# Altium schematic symbol library Schematic-Lib-ABahlmann-CON.SchLib: 147 symbols (part 2 of 2)
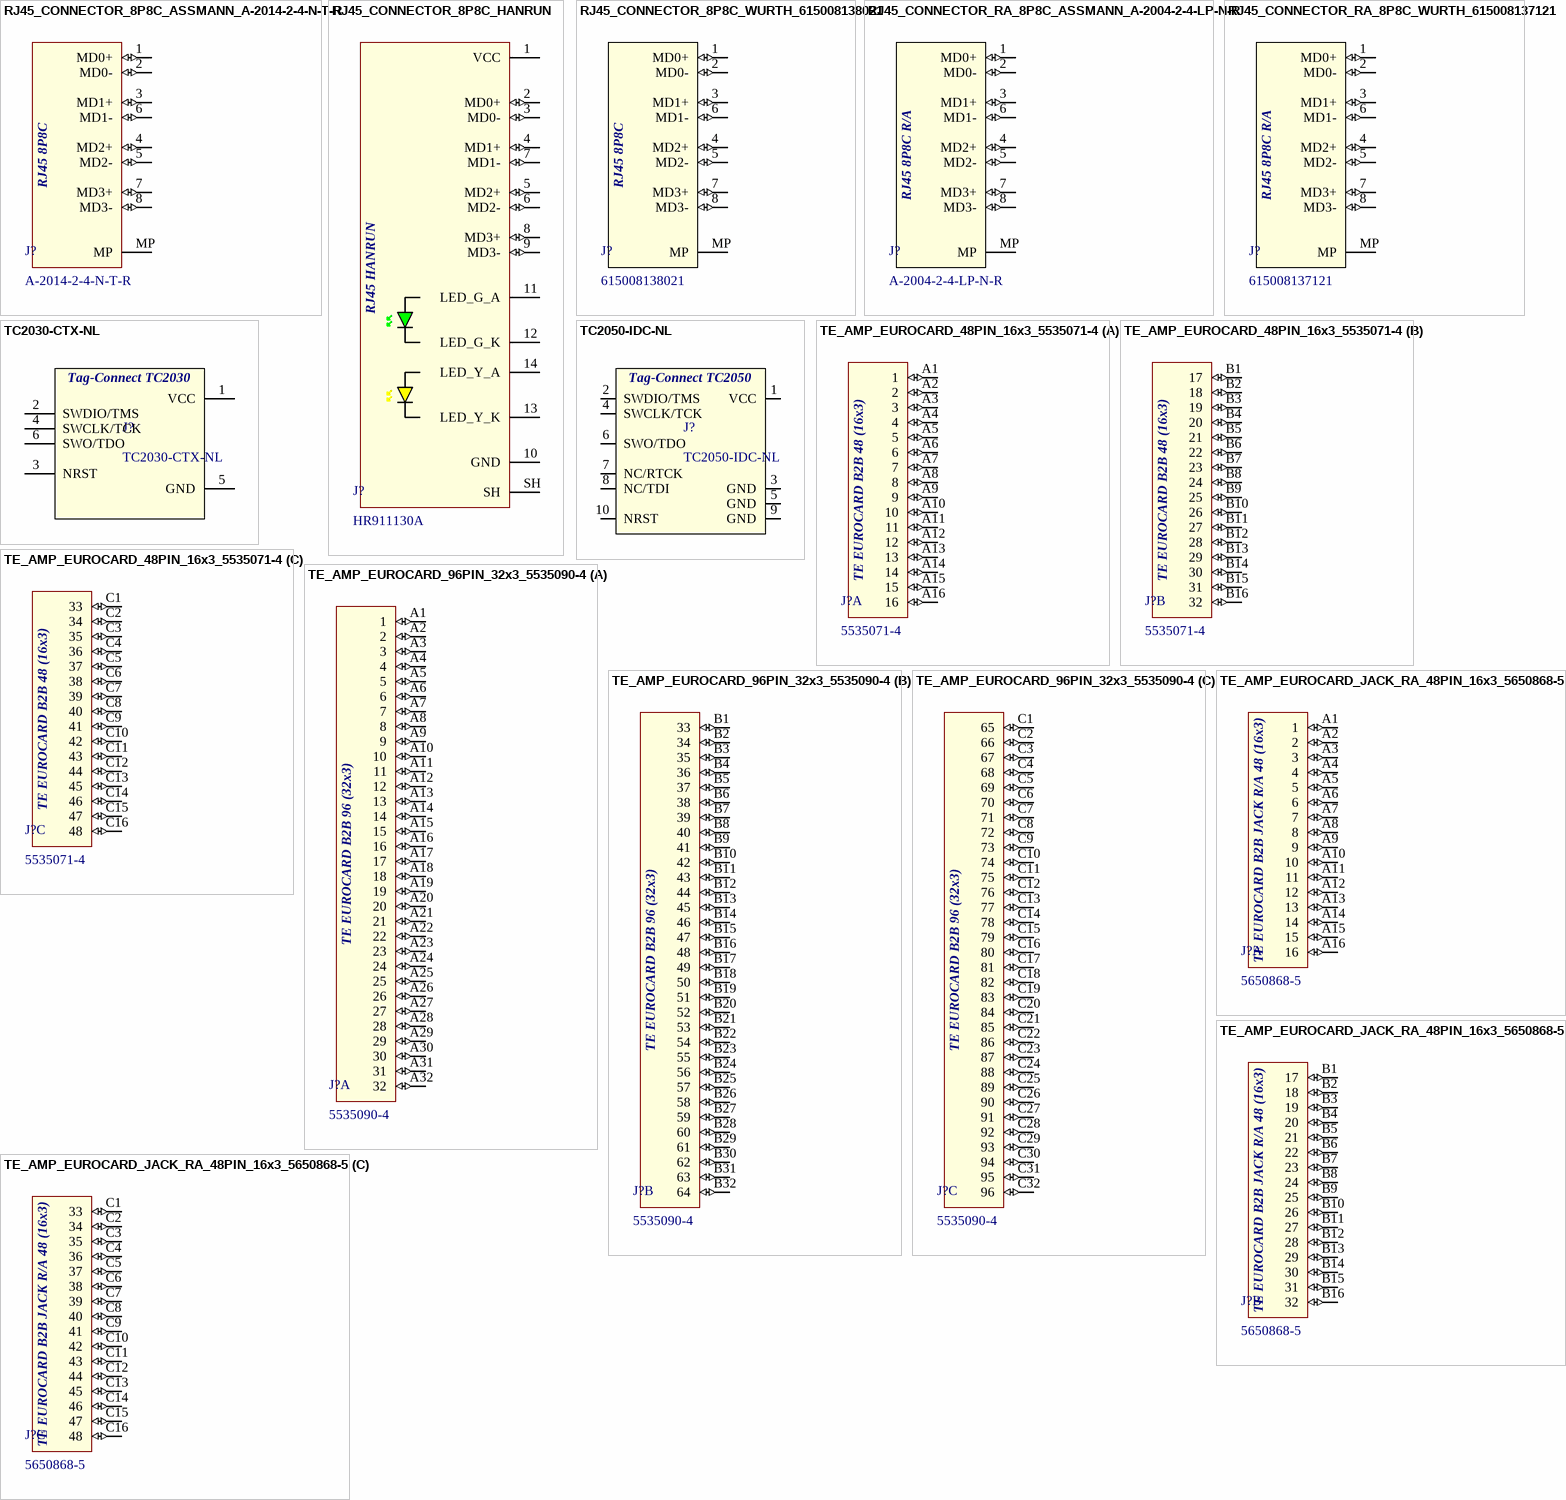
[diagram p7: symbols RJ45_CONNECTOR_8P8C_ASSMANN_A-2014-2-4-N-T-R to TE_AMP_EUROCARD_JACK_RA_48PIN_16x3_5650868-5]

## TC2050-IDC-NL
designator J?  (no BOM)
TC2050-IDC-NL 10-Pin "No-Legs" Cable with Ribbon Connector (NO BOM); ComponentLink1Description: Tag-Connect; ComponentLink1URL: https://www.tag-connect.com/product/tc2050-idc-nl-10-pin-no-legs-cable-with-ribbon-connector; ComponentLink2Description: Datasheet; ComponentLink2URL: https://www.tag-connect.com/wp-content/uploads/bsk-pdf-manager/TC2050-IDC-NL_Datasheet_8.pdf; ComponentLink3Description: Pinout; ComponentLink3URL: https://www.tag-connect.com/wp-content/uploads/bsk-pdf-manager/TC2030-CTX_1.pdf
footprint TC2050-NL-FP
footprint TC2050-FP
pins: 1 VCC, 2 SWDIO/TMS, 3 GND, 4 SWCLK/TCK, 5 GND, 6 SWO/TDO, 7 NC/RTCK, 8 NC/TDI, 9 GND, 10 NRST
text: Tag-Connect TC2050

## TE_AMP_EUROCARD_48PIN_16x3_5535071-4
designator J?, comment 5535071-4
48 Position Din Connector Receptacle, Female Sockets Gold Through Hole; ComponentLink1Description: Digikey; ComponentLink1URL: https://www.digikey.ca/en/products/detail/te-connectivity-amp-connectors/5535071-4/1091296; ComponentLink2Description: Datasheet; ComponentLink2URL: https://www.te.com/commerce/DocumentDelivery/DDEController?Action=srchrtrv&DocNm=5535071&DocType=Customer+Drawing&DocLang=English
footprint TE_AMP_EUROCARD_48PIN_16x3_5535071-4 (48 Position Din Connector Receptacle, Female Sockets Gold Through Hole)
part A pins: A1 1 (io), A2 2 (io), A3 3 (io), A4 4 (io), A5 5 (io), A6 6 (io), A7 7 (io), A8 8 (io), A9 9 (io), A10 10 (io), A11 11 (io), A12 12 (io), A13 13 (io), A14 14 (io), A15 15 (io), A16 16 (io)
part B pins: B1 17 (io), B2 18 (io), B3 19 (io), B4 20 (io), B5 21 (io), B6 22 (io), B7 23 (io), B8 24 (io), B9 25 (io), B10 26 (io), B11 27 (io), B12 28 (io), B13 29 (io), B14 30 (io), B15 31 (io), B16 32 (io)
part C pins: C1 33 (io), C2 34 (io), C3 35 (io), C4 36 (io), C5 37 (io), C6 38 (io), C7 39 (io), C8 40 (io), C9 41 (io), C10 42 (io), C11 43 (io), C12 44 (io), C13 45 (io), C14 46 (io), C15 47 (io), C16 48 (io)
part A text: TE EUROCARD B2B 48 (16x3)
part B text: TE EUROCARD B2B 48 (16x3)
part C text: TE EUROCARD B2B 48 (16x3)

## TE_AMP_EUROCARD_96PIN_32x3_5535090-4
designator J?, comment 5535090-4
96 Position Din Connector Receptacle, Female Sockets Gold Through Hole; ComponentLink1Description: Digikey; ComponentLink1URL: https://www.digikey.ca/en/products/detail/te-connectivity-amp-connectors/5535090-4/1091302?s=N4IgTCBcDaIKxwMxwAwE4UFoAsIC6AvkA; ComponentLink2Description: Datasheet; ComponentLink2URL: https://www.te.com/usa-en/product-5535090-4.datasheet.pdf
footprint TE_AMP_EUROCARD_96PIN_32x3_5535090-4 (96 Position Din Connector Receptacle, Female Sockets Gold Through Hole)
part A pins: A1 1 (io), A2 2 (io), A3 3 (io), A4 4 (io), A5 5 (io), A6 6 (io), A7 7 (io), A8 8 (io), A9 9 (io), A10 10 (io), A11 11 (io), A12 12 (io), A13 13 (io), A14 14 (io), A15 15 (io), A16 16 (io), A17 17 (io), A18 18 (io), A19 19 (io), A20 20 (io), A21 21 (io), A22 22 (io), A23 23 (io), A24 24 (io), A25 25 (io), A26 26 (io), A27 27 (io), A28 28 (io), A29 29 (io), A30 30 (io), A31 31 (io), A32 32 (io)
part B pins: B1 33 (io), B2 34 (io), B3 35 (io), B4 36 (io), B5 37 (io), B6 38 (io), B7 39 (io), B8 40 (io), B9 41 (io), B10 42 (io), B11 43 (io), B12 44 (io), B13 45 (io), B14 46 (io), B15 47 (io), B16 48 (io), B17 49 (io), B18 50 (io), B19 51 (io), B20 52 (io), B21 53 (io), B22 54 (io), B23 55 (io), B24 56 (io), B25 57 (io), B26 58 (io), B27 59 (io), B28 60 (io), B29 61 (io), B30 62 (io), B31 63 (io), B32 64 (io)
part C pins: C1 65 (io), C2 66 (io), C3 67 (io), C4 68 (io), C5 69 (io), C6 70 (io), C7 71 (io), C8 72 (io), C9 73 (io), C10 74 (io), C11 75 (io), C12 76 (io), C13 77 (io), C14 78 (io), C15 79 (io), C16 80 (io), C17 81 (io), C18 82 (io), C19 83 (io), C20 84 (io), C21 85 (io), C22 86 (io), C23 87 (io), C24 88 (io), C25 89 (io), C26 90 (io), C27 91 (io), C28 92 (io), C29 93 (io), C30 94 (io), C31 95 (io), C32 96 (io)
part A text: TE EUROCARD B2B 96 (32x3)
part B text: TE EUROCARD B2B 96 (32x3)
part C text: TE EUROCARD B2B 96 (32x3)

## TE_AMP_EUROCARD_JACK_RA_48PIN_16x3_5650868-5
designator J?, comment 5650868-5
48 Position Din Connector Receptacle, Female Sockets Gold Through Hole, Right Angle; ComponentLink1Description: Digikey; ComponentLink1URL: https://www.digikey.com/en/products/detail/te-connectivity-amp-connectors/5650868-5/1091317; ComponentLink2Description: Datasheet; ComponentLink2URL: https://www.te.com/commerce/DocumentDelivery/DDEController?Action=srchrtrv&DocNm=5650868&DocType=Customer+Drawing&DocLang=English
footprint TE_AMP_EUROCARD_JACK_RA_48PIN_16x3_5650868-5 (48 Position Din Connector Receptacle, Female Sockets Gold Through Hole, Right Angle)
part A pins: A1 1 (io), A2 2 (io), A3 3 (io), A4 4 (io), A5 5 (io), A6 6 (io), A7 7 (io), A8 8 (io), A9 9 (io), A10 10 (io), A11 11 (io), A12 12 (io), A13 13 (io), A14 14 (io), A15 15 (io), A16 16 (io)
part B pins: B1 17 (io), B2 18 (io), B3 19 (io), B4 20 (io), B5 21 (io), B6 22 (io), B7 23 (io), B8 24 (io), B9 25 (io), B10 26 (io), B11 27 (io), B12 28 (io), B13 29 (io), B14 30 (io), B15 31 (io), B16 32 (io)
part C pins: C1 33 (io), C2 34 (io), C3 35 (io), C4 36 (io), C5 37 (io), C6 38 (io), C7 39 (io), C8 40 (io), C9 41 (io), C10 42 (io), C11 43 (io), C12 44 (io), C13 45 (io), C14 46 (io), C15 47 (io), C16 48 (io)
part A text: TE EUROCARD B2B JACK R/A 48 (16x3)
part B text: TE EUROCARD B2B JACK R/A 48 (16x3)
part C text: TE EUROCARD B2B JACK R/A 48 (16x3)

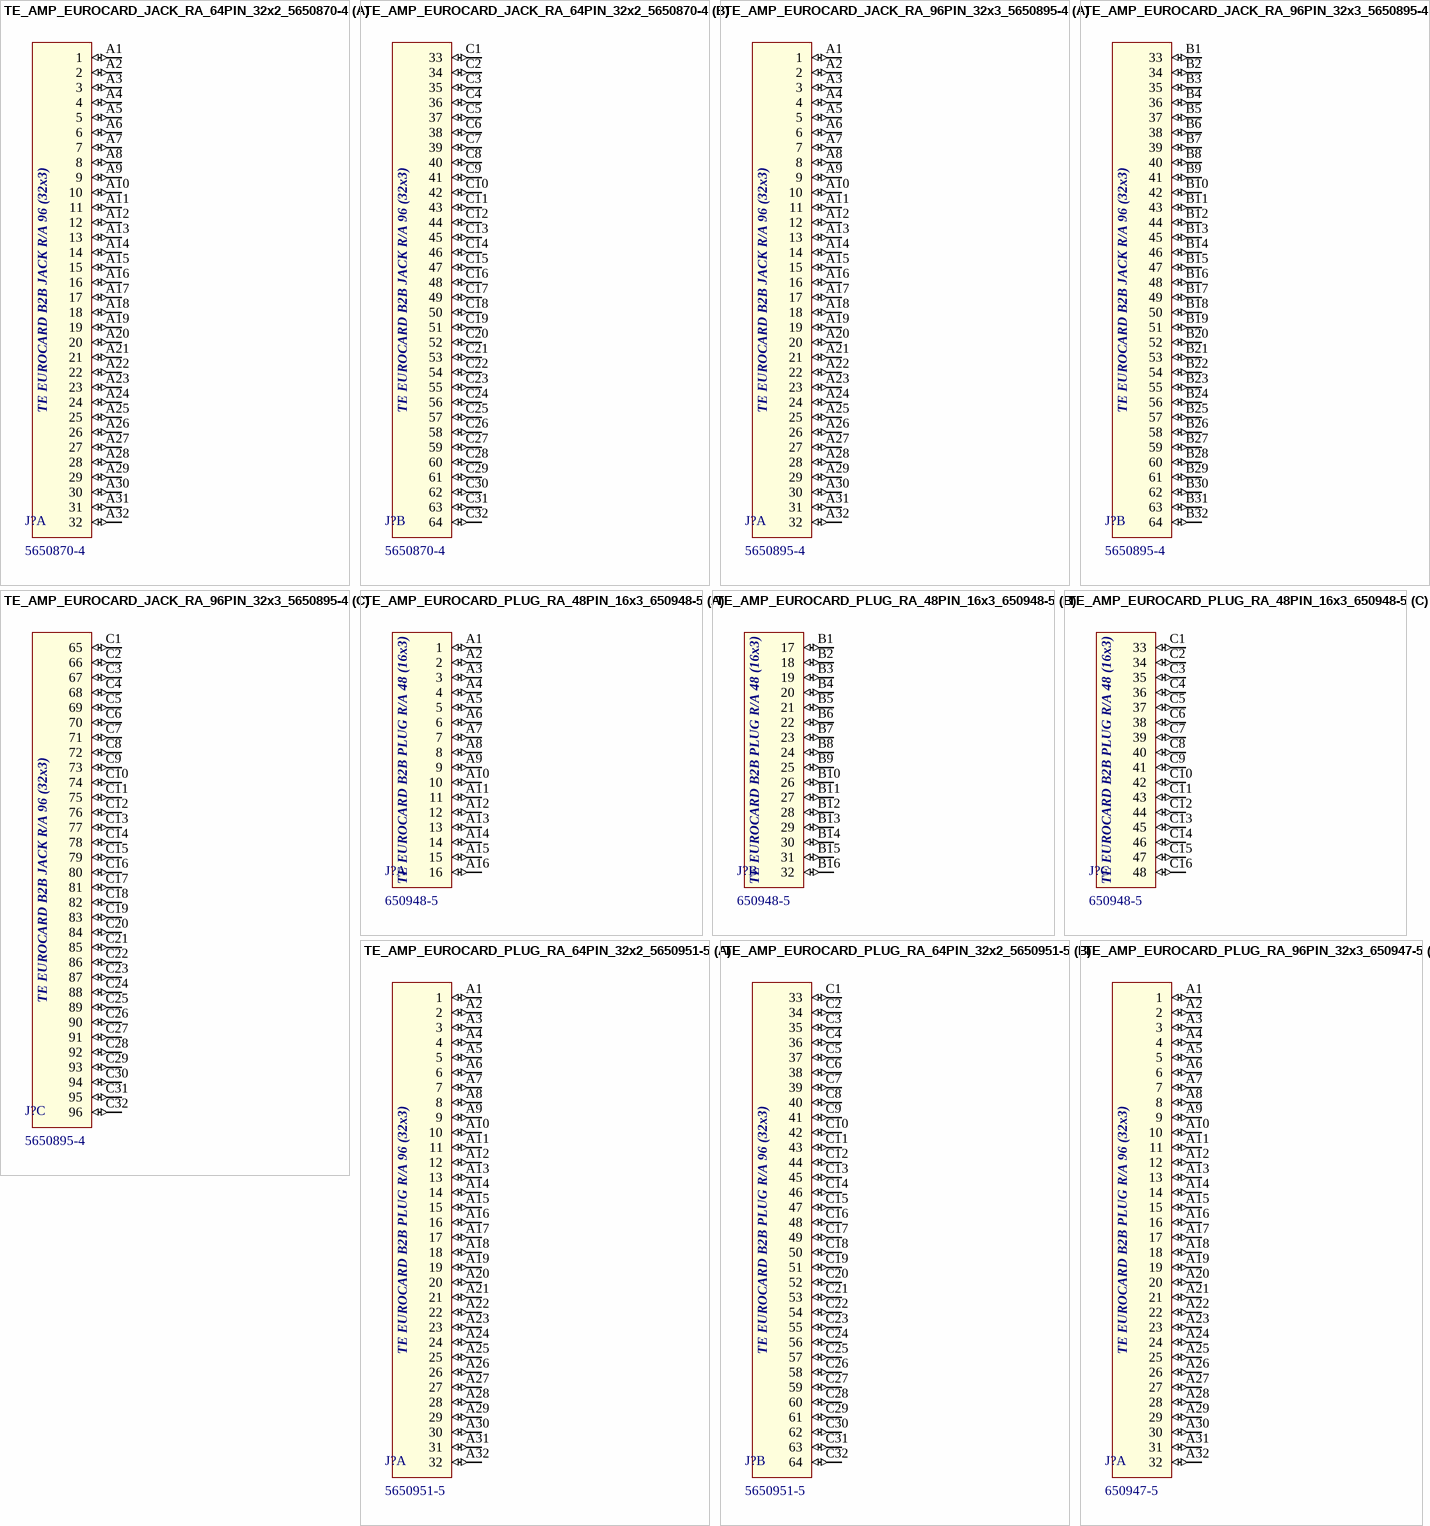
[diagram p4: symbols TE_AMP_EUROCARD_JACK_RA_64PIN_32x2_5650870-4 to TE_AMP_EUROCARD_PLUG_RA_96PIN_32x3_650947-5]

## TE_AMP_EUROCARD_JACK_RA_64PIN_32x2_5650870-4
designator J?, comment 5650870-4
96 Position Din Connector Receptacle, Female Sockets Gold Through Hole, Right Angle; ComponentLink1Description: Digikey; ComponentLink1URL: https://www.digikey.ca/en/products/detail/te-connectivity-amp-connectors/5650870-4/1091318; ComponentLink2Description: Datasheet; ComponentLink2URL: https://www.te.com/commerce/DocumentDelivery/DDEController?Action=srchrtrv&DocNm=5650870&DocType=Customer+Drawing&DocLang=English
footprint TE_AMP_EUROCARD_JACK_RA_96PIN_32x2_5650870-4_CUSTOM (96 Position Din Connector Receptacle, Female Sockets Gold Through Hole, Right Angle)
part A pins: A1 1 (io), A2 2 (io), A3 3 (io), A4 4 (io), A5 5 (io), A6 6 (io), A7 7 (io), A8 8 (io), A9 9 (io), A10 10 (io), A11 11 (io), A12 12 (io), A13 13 (io), A14 14 (io), A15 15 (io), A16 16 (io), A17 17 (io), A18 18 (io), A19 19 (io), A20 20 (io), A21 21 (io), A22 22 (io), A23 23 (io), A24 24 (io), A25 25 (io), A26 26 (io), A27 27 (io), A28 28 (io), A29 29 (io), A30 30 (io), A31 31 (io), A32 32 (io)
part B pins: C1 33 (io), C2 34 (io), C3 35 (io), C4 36 (io), C5 37 (io), C6 38 (io), C7 39 (io), C8 40 (io), C9 41 (io), C10 42 (io), C11 43 (io), C12 44 (io), C13 45 (io), C14 46 (io), C15 47 (io), C16 48 (io), C17 49 (io), C18 50 (io), C19 51 (io), C20 52 (io), C21 53 (io), C22 54 (io), C23 55 (io), C24 56 (io), C25 57 (io), C26 58 (io), C27 59 (io), C28 60 (io), C29 61 (io), C30 62 (io), C31 63 (io), C32 64 (io)
part A text: TE EUROCARD B2B JACK R/A 96 (32x3)
part B text: TE EUROCARD B2B JACK R/A 96 (32x3)

## TE_AMP_EUROCARD_JACK_RA_96PIN_32x3_5650895-4
designator J?, comment 5650895-4
96 Position Din Connector Receptacle, Female Sockets Gold Through Hole, Right Angle; ComponentLink1Description: Digikey; ComponentLink1URL: https://www.digikey.ca/en/products/detail/te-connectivity-amp-connectors/5650895-4/2135731; ComponentLink2Description: Datasheet; ComponentLink2URL: https://www.te.com/usa-en/product-5650895-4.datasheet.pdf
footprint TE_AMP_EUROCARD_JACK_RA_96PIN_32x3_5650895-4 (96 Position Din Connector Receptacle, Female Sockets Gold Through Hole, Right Angle)
part A pins: A1 1 (io), A2 2 (io), A3 3 (io), A4 4 (io), A5 5 (io), A6 6 (io), A7 7 (io), A8 8 (io), A9 9 (io), A10 10 (io), A11 11 (io), A12 12 (io), A13 13 (io), A14 14 (io), A15 15 (io), A16 16 (io), A17 17 (io), A18 18 (io), A19 19 (io), A20 20 (io), A21 21 (io), A22 22 (io), A23 23 (io), A24 24 (io), A25 25 (io), A26 26 (io), A27 27 (io), A28 28 (io), A29 29 (io), A30 30 (io), A31 31 (io), A32 32 (io)
part B pins: B1 33 (io), B2 34 (io), B3 35 (io), B4 36 (io), B5 37 (io), B6 38 (io), B7 39 (io), B8 40 (io), B9 41 (io), B10 42 (io), B11 43 (io), B12 44 (io), B13 45 (io), B14 46 (io), B15 47 (io), B16 48 (io), B17 49 (io), B18 50 (io), B19 51 (io), B20 52 (io), B21 53 (io), B22 54 (io), B23 55 (io), B24 56 (io), B25 57 (io), B26 58 (io), B27 59 (io), B28 60 (io), B29 61 (io), B30 62 (io), B31 63 (io), B32 64 (io)
part C pins: C1 65 (io), C2 66 (io), C3 67 (io), C4 68 (io), C5 69 (io), C6 70 (io), C7 71 (io), C8 72 (io), C9 73 (io), C10 74 (io), C11 75 (io), C12 76 (io), C13 77 (io), C14 78 (io), C15 79 (io), C16 80 (io), C17 81 (io), C18 82 (io), C19 83 (io), C20 84 (io), C21 85 (io), C22 86 (io), C23 87 (io), C24 88 (io), C25 89 (io), C26 90 (io), C27 91 (io), C28 92 (io), C29 93 (io), C30 94 (io), C31 95 (io), C32 96 (io)
part A text: TE EUROCARD B2B JACK R/A 96 (32x3)
part B text: TE EUROCARD B2B JACK R/A 96 (32x3)
part C text: TE EUROCARD B2B JACK R/A 96 (32x3)

## TE_AMP_EUROCARD_PLUG_RA_48PIN_16x3_650948-5
designator J?, comment 650948-5
48 Position Din Connector Plug, Male Pins Gold Through Hole, Right Angle; ComponentLink1Description: Digikey; ComponentLink1URL: https://www.digikey.ca/en/products/detail/te-connectivity-amp-connectors/650948-5/146312; ComponentLink2Description: Datasheet; ComponentLink2URL: https://www.te.com/commerce/DocumentDelivery/DDEController?Action=srchrtrv&DocNm=650948&DocType=Customer+Drawing&DocLang=English
footprint TE_AMP_EUROCARD_PLUG_RA_48PIN_16x3_650948-5 (48 Position Din Connector Plug, Male Pins Gold Through Hole, Right Angle)
part A pins: A1 1 (io), A2 2 (io), A3 3 (io), A4 4 (io), A5 5 (io), A6 6 (io), A7 7 (io), A8 8 (io), A9 9 (io), A10 10 (io), A11 11 (io), A12 12 (io), A13 13 (io), A14 14 (io), A15 15 (io), A16 16 (io)
part B pins: B1 17 (io), B2 18 (io), B3 19 (io), B4 20 (io), B5 21 (io), B6 22 (io), B7 23 (io), B8 24 (io), B9 25 (io), B10 26 (io), B11 27 (io), B12 28 (io), B13 29 (io), B14 30 (io), B15 31 (io), B16 32 (io)
part C pins: C1 33 (io), C2 34 (io), C3 35 (io), C4 36 (io), C5 37 (io), C6 38 (io), C7 39 (io), C8 40 (io), C9 41 (io), C10 42 (io), C11 43 (io), C12 44 (io), C13 45 (io), C14 46 (io), C15 47 (io), C16 48 (io)
part A text: TE EUROCARD B2B PLUG R/A 48 (16x3)
part B text: TE EUROCARD B2B PLUG R/A 48 (16x3)
part C text: TE EUROCARD B2B PLUG R/A 48 (16x3)

## TE_AMP_EUROCARD_PLUG_RA_64PIN_32x2_5650951-5
designator J?, comment 5650951-5
96 Position Din Connector Plug, Male Pins Gold Through Hole, Right Angle; ComponentLink1Description: Digikey; ComponentLink1URL: https://www.digikey.ca/en/products/detail/te-connectivity-amp-connectors/5650951-5/1091271; ComponentLink2Description: Datasheet; ComponentLink2URL: https://www.te.com/commerce/DocumentDelivery/DDEController?Action=srchrtrv&DocNm=5650951&DocType=Customer+Drawing&DocLang=English
footprint TE_AMP_EUROCARD_PLUG_RA_96PIN_32x2_5650951-5_CUSTOM (96 Position Din Connector Plug, Male Pins Gold Through Hole, Right Angle)
part A pins: A1 1 (io), A2 2 (io), A3 3 (io), A4 4 (io), A5 5 (io), A6 6 (io), A7 7 (io), A8 8 (io), A9 9 (io), A10 10 (io), A11 11 (io), A12 12 (io), A13 13 (io), A14 14 (io), A15 15 (io), A16 16 (io), A17 17 (io), A18 18 (io), A19 19 (io), A20 20 (io), A21 21 (io), A22 22 (io), A23 23 (io), A24 24 (io), A25 25 (io), A26 26 (io), A27 27 (io), A28 28 (io), A29 29 (io), A30 30 (io), A31 31 (io), A32 32 (io)
part B pins: C1 33 (io), C2 34 (io), C3 35 (io), C4 36 (io), C5 37 (io), C6 38 (io), C7 39 (io), C8 40 (io), C9 41 (io), C10 42 (io), C11 43 (io), C12 44 (io), C13 45 (io), C14 46 (io), C15 47 (io), C16 48 (io), C17 49 (io), C18 50 (io), C19 51 (io), C20 52 (io), C21 53 (io), C22 54 (io), C23 55 (io), C24 56 (io), C25 57 (io), C26 58 (io), C27 59 (io), C28 60 (io), C29 61 (io), C30 62 (io), C31 63 (io), C32 64 (io)
part A text: TE EUROCARD B2B PLUG R/A 96 (32x3)
part B text: TE EUROCARD B2B PLUG R/A 96 (32x3)

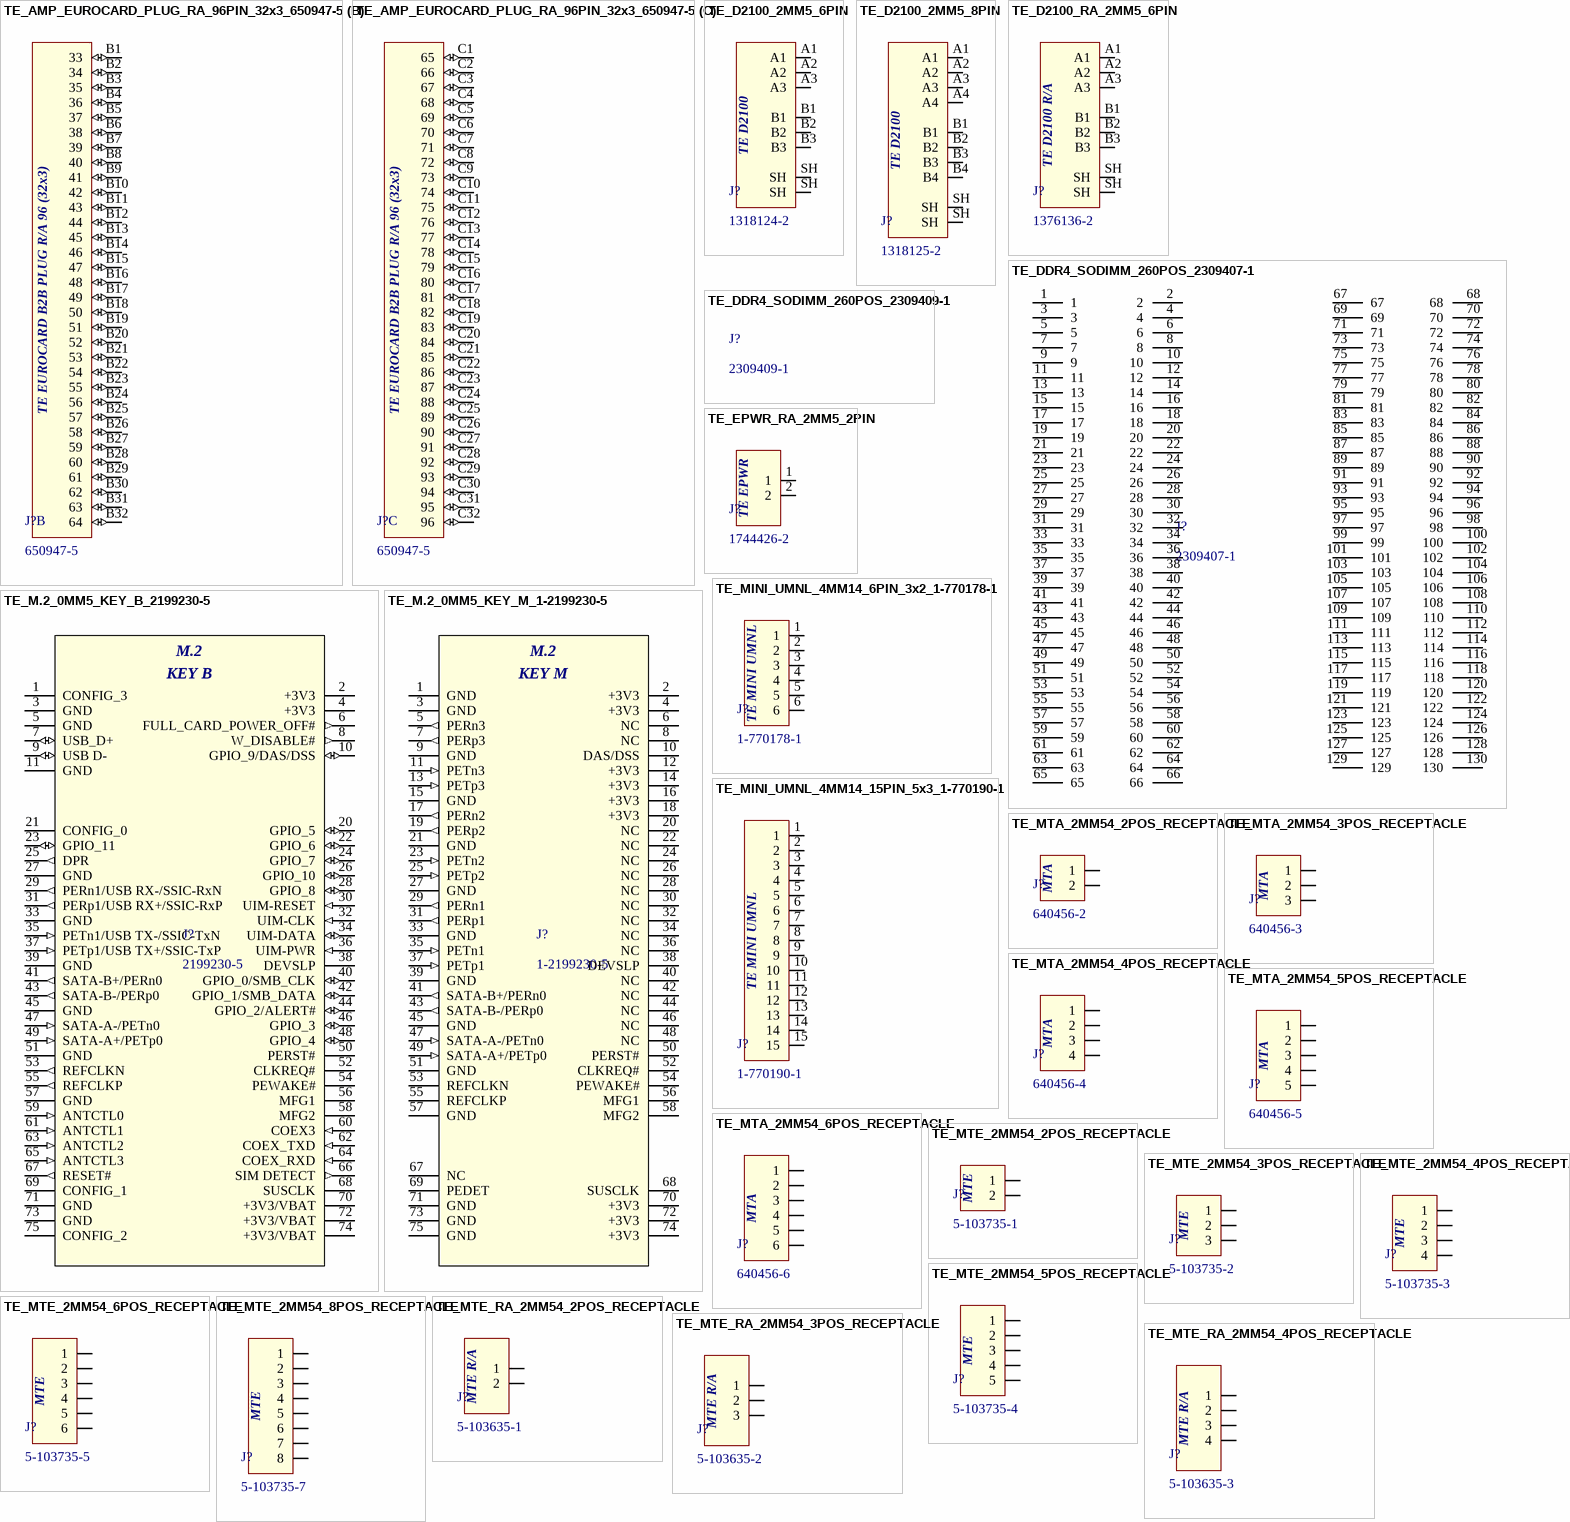
[diagram p5: symbols TE_AMP_EUROCARD_PLUG_RA_96PIN_32x3_650947-5 to TE_MTE_RA_2MM54_4POS_RECEPTACLE]

## TE_AMP_EUROCARD_PLUG_RA_96PIN_32x3_650947-5
designator J?, comment 650947-5
96 Position Din Connector Plug, Male Pins Gold Through Hole, Right Angle; ComponentLink1Description: Digikey; ComponentLink1URL: https://www.digikey.ca/en/products/detail/te-connectivity-amp-connectors/650947-5/146306; ComponentLink2Description: Datasheet; ComponentLink2URL: https://www.te.com/commerce/DocumentDelivery/DDEController?Action=srchrtrv&DocNm=650947&DocType=Customer+Drawing&DocLang=English
footprint TE_AMP_EUROCARD_PLUG_RA_96PIN_32x3_650947-5 (96 Position Din Connector Plug, Male Pins Gold Through Hole, Right Angle)
part A pins: A1 1 (io), A2 2 (io), A3 3 (io), A4 4 (io), A5 5 (io), A6 6 (io), A7 7 (io), A8 8 (io), A9 9 (io), A10 10 (io), A11 11 (io), A12 12 (io), A13 13 (io), A14 14 (io), A15 15 (io), A16 16 (io), A17 17 (io), A18 18 (io), A19 19 (io), A20 20 (io), A21 21 (io), A22 22 (io), A23 23 (io), A24 24 (io), A25 25 (io), A26 26 (io), A27 27 (io), A28 28 (io), A29 29 (io), A30 30 (io), A31 31 (io), A32 32 (io)
part B pins: B1 33 (io), B2 34 (io), B3 35 (io), B4 36 (io), B5 37 (io), B6 38 (io), B7 39 (io), B8 40 (io), B9 41 (io), B10 42 (io), B11 43 (io), B12 44 (io), B13 45 (io), B14 46 (io), B15 47 (io), B16 48 (io), B17 49 (io), B18 50 (io), B19 51 (io), B20 52 (io), B21 53 (io), B22 54 (io), B23 55 (io), B24 56 (io), B25 57 (io), B26 58 (io), B27 59 (io), B28 60 (io), B29 61 (io), B30 62 (io), B31 63 (io), B32 64 (io)
part C pins: C1 65 (io), C2 66 (io), C3 67 (io), C4 68 (io), C5 69 (io), C6 70 (io), C7 71 (io), C8 72 (io), C9 73 (io), C10 74 (io), C11 75 (io), C12 76 (io), C13 77 (io), C14 78 (io), C15 79 (io), C16 80 (io), C17 81 (io), C18 82 (io), C19 83 (io), C20 84 (io), C21 85 (io), C22 86 (io), C23 87 (io), C24 88 (io), C25 89 (io), C26 90 (io), C27 91 (io), C28 92 (io), C29 93 (io), C30 94 (io), C31 95 (io), C32 96 (io)
part A text: TE EUROCARD B2B PLUG R/A 96 (32x3)
part B text: TE EUROCARD B2B PLUG R/A 96 (32x3)
part C text: TE EUROCARD B2B PLUG R/A 96 (32x3)

## TE_D2100_2MM5_6PIN
designator J?, comment 1318124-2
Connector Header Through Hole 6 position 0.098" (2.50mm); ComponentLink1Description: Digikey; ComponentLink1URL: https://www.digikey.ca/en/products/detail/te-connectivity-amp-connectors/1318124-2/1864052; ComponentLink2Description: Datasheet; ComponentLink2URL: https://www.te.com/commerce/DocumentDelivery/DDEController?Action=srchrtrv&DocNm=1318124&DocType=Customer%20Drawing&DocLang=English&DocFormat=pdf&PartCntxt=1318124-2
pins: A1, A2, A3, B1, B2, B3, SH, SH
text: TE D2100

## TE_D2100_2MM5_8PIN
designator J?, comment 1318125-2
Connector Header Through Hole 8 position 0.098" (2.50mm); ComponentLink1Description: Digikey; ComponentLink1URL: https://www.digikey.ca/en/products/detail/te-connectivity-amp-connectors/1318125-2/664529; ComponentLink2Description: Datasheet; ComponentLink2URL: https://www.te.com/commerce/DocumentDelivery/DDEController?Action=srchrtrv&DocNm=1318125&DocType=Customer%20Drawing&DocLang=Japanese&DocFormat=pdf&PartCntxt=1318125-2
pins: A1, A2, A3, A4, B1, B2, B3, B4, SH, SH
text: TE D2100

## TE_D2100_RA_2MM5_6PIN
designator J?, comment 1376136-2
Connector Header Through Hole, Right Angle 6 position 0.098" (2.50mm); ComponentLink1Description: Digikey; ComponentLink1URL: https://www.digikey.ca/en/products/detail/te-connectivity-amp-connectors/1376136-2/664548; ComponentLink2Description: Datasheet; ComponentLink2URL: https://www.te.com/commerce/DocumentDelivery/DDEController?Action=srchrtrv&DocNm=1376136&DocType=Customer%20Drawing&DocLang=English&DocFormat=pdf&PartCntxt=1376136-2
footprint TE_D2100_RA_2MM5_6PIN_1376136-2 (Connector Header Through Hole, Right Angle 6 position 0.098" (2.50mm))
pins: A1, A2, A3, B1, B2, B3, SH, SH
text: TE D2100 R/A

## TE_DDR4_SODIMM_260POS_2309407-1
designator J?, comment 2309407-1
260 Position SODIMM DDR4 SDRAM Socket Surface Mount; ComponentLink1Description: Digikey; ComponentLink1URL: https://www.digikey.ca/en/products/detail/te-connectivity-amp-connectors/2309407-1/7793534; ComponentLink2Description: Datasheet; ComponentLink2URL: https://www.te.com/commerce/DocumentDelivery/DDEController?Action=srchrtrv&DocNm=2309407&DocType=Customer%20Drawing&DocLang=English&PartCntxt=2309407-1&DocFormat=pdf; ComponentLink3Description: TE; ComponentLink3URL: https://www.te.com/en/product-2309407-1.html
footprint TE_DDR4_SODIMM_260POS_2309407-1 (260 Position SODIMM DDR4 SDRAM Socket Surface Mount)
pins: 1, 2, 3, 4, 5, 6, 7, 8, 9, 10, 11, 12, 13, 14, 15, 16, 17, 18, 19, 20, 21, 22, 23, 24, 25, 26, 27, 28, 29, 30, 31, 32, 33, 34, 35, 36, 37, 38, 39, 40, 41, 42, 43, 44, 45, 46, 47, 48, 49, 50, 51, 52, 53, 54, 55, 56, 57, 58, 59, 60, 61, 62, 63, 64, 65, 66, 67, 68, 69, 70, 71, 72, 73, 74, 75, 76, 77, 78, 79, 80, 81, 82, 83, 84, 85, 86, 87, 88, 89, 90, 91, 92, 93, 94, 95, 96, 97, 98, 99, 100, 101, 102, 103, 104, 105, 106, 107, 108, 109, 110, 111, 112, 113, 114, 115, 116, 117, 118, 119, 120, 121, 122, 123, 124, 125, 126, 127, 128, 129, 130

## TE_DDR4_SODIMM_260POS_2309409-1
designator J?, comment 2309409-1
260 Position SODIMM DDR4 SDRAM Socket Surface Mount; ComponentLink1Description: Digikey; ComponentLink1URL: https://www.digikey.ca/en/products/detail/te-connectivity-amp-connectors/2309409-1/7793536; ComponentLink2Description: Datasheet; ComponentLink2URL: https://www.te.com/commerce/DocumentDelivery/DDEController?Action=srchrtrv&DocNm=2309409&DocType=Customer%20Drawing&DocLang=English&DocFormat=pdf&PartCntxt=2309409-1; ComponentLink3Description: TE; ComponentLink3URL: https://www.te.com/en/product-2309409-1.html
footprint TE_DDR4_SODIMM_260POS_2309409-1 (260 Position SODIMM DDR4 SDRAM Socket Surface Mount)

## TE_EPWR_RA_2MM5_2PIN
designator J?, comment 1744426-2
Connector Header Through Hole, Right Angle 2 position 0.098" (2.50mm); ComponentLink1Description: Digikey; ComponentLink1URL: https://www.digikey.com/en/products/detail/te-connectivity-amp-connectors/1744426-2/4730284; ComponentLink2Description: Datasheet; ComponentLink2URL: https://www.te.com/commerce/DocumentDelivery/DDEController?Action=srchrtrv&DocNm=1744426&DocType=Customer%20Drawing&DocLang=English&DocFormat=pdf&PartCntxt=1744426-2
pins: 1, 2
text: TE EPWR

## TE_M.2_0MM5_KEY_B_2199230-5
designator J?, comment 2199230-5
67 Position Female Connector M.2 (NGFF) Mini Card Gold 0.020" (0.50mm) Black; ComponentLink1Description: Digikey; ComponentLink1URL: https://www.digikey.ca/en/products/detail/te-connectivity-amp-connectors/2199230-5/5430734; ComponentLink2Description: Datasheet; ComponentLink2URL: https://www.te.com/commerce/DocumentDelivery/DDEController?Action=srchrtrv&DocNm=2199230&DocType=Customer+Drawing&DocLang=English&PartCntxt=2199230-5; ComponentLink3Description: Mouser; ComponentLink3URL: https://www.mouser.ca/ProductDetail/TE-Connectivity/2199230-5?qs=I%252B29QTDM1GN4mx%2FsJH%252BAMA%3D%3D
footprint TE_M.2_0MM5_KEY_B_2199230-5 (67 Position Female Connector M.2 (NGFF) Mini Card Gold 0.020" (0.50mm) Black)
pins: 1 CONFIG_3, 2 +3V3 (power), 3 GND (power), 4 +3V3 (power), 5 GND (power), 6 FULL_CARD_POWER_OFF# (out), 7 USB_D+ (io), 8 W_DISABLE# (out), 9 USB D- (io), 10 GPIO_9/DAS/DSS (io), 11 GND (power), 20 GPIO_5 (io), 21 CONFIG_0, 22 GPIO_6 (io), 23 GPIO_11 (io), 24 GPIO_7 (io), 25 DPR (out), 26 GPIO_10 (io), 27 GND (power), 28 GPIO_8 (io), 29 PERn1/USB RX-/SSIC-RxN (out), 30 UIM-RESET (in), 31 PERp1/USB RX+/SSIC-RxP (out), 32 UIM-CLK (in), 33 GND (power), 34 UIM-DATA (io), 35 PETn1/USB TX-/SSIC-TxN (in), 36 UIM-PWR (in), 37 PETp1/USB TX+/SSIC-TxP (in), 38 DEVSLP, 39 GND (power), 40 GPIO_0/SMB_CLK (io), 41 SATA-B+/PERn0 (out), 42 GPIO_1/SMB_DATA (io), 43 SATA-B-/PERp0 (out), 44 GPIO_2/ALERT# (io), 45 GND (power), 46 GPIO_3 (io), 47 SATA-A-/PETn0 (in), 48 GPIO_4 (io), 49 SATA-A+/PETp0 (in), 50 PERST#, 51 GND (power), 52 CLKREQ#, 53 REFCLKN (out), 54 PEWAKE#, 55 REFCLKP (out), 56 MFG1, 57 GND (power), 58 MFG2, 59 ANTCTL0 (in), 60 COEX3 (in), 61 ANTCTL1 (in), 62 COEX_TXD (in), 63 ANTCTL2 (in), 64 COEX_RXD (in), 65 ANTCTL3 (in), 66 SIM DETECT (out), 67 RESET# (out), 68 SUSCLK, 69 CONFIG_1, 70 +3V3/VBAT (power), 71 GND (power), 72 +3V3/VBAT (power), 73 GND (power), 74 +3V3/VBAT (power), 75 CONFIG_2
text: M.2; KEY B

## TE_M.2_0MM5_KEY_M_1-2199230-5
designator J?, comment 1-2199230-5
67 Position Female Connector M.2 (NGFF) Mini Card Gold 0.020" (0.50mm) Black; ComponentLink1Description: Digikey; ComponentLink1URL: https://www.digikey.com/en/products/detail/te-connectivity-amp-connectors/1-2199230-5/5430814; ComponentLink2Description: Datasheet; ComponentLink2URL: https://www.te.com/commerce/DocumentDelivery/DDEController?Action=srchrtrv&DocNm=2199230&DocType=Customer+Drawing&DocLang=English&PartCntxt=2199230-5; ComponentLink3Description: Mouser; ComponentLink3URL: https://www.mouser.ca/ProductDetail/TE-Connectivity/1-2199230-5?qs=N0TJGnUfxCD5L9UvFjPEwQ%3D%3D
footprint TE_M.2_0MM5_KEY_M_1-2199230-5 (67 Position Female Connector M.2 (NGFF) Mini Card Gold 0.020" (0.50mm) Black)
pins: 1 GND, 2 +3V3 (power), 3 GND (power), 4 +3V3 (power), 5 PERn3 (out), 6 NC, 7 PERp3 (out), 8 NC, 9 GND (power), 10 DAS/DSS, 11 PETn3 (in), 12 +3V3 (power), 13 PETp3 (in), 14 +3V3 (power), 15 GND (power), 16 +3V3 (power), 17 PERn2 (out), 18 +3V3 (power), 19 PERp2 (out), 20 NC, 21 GND, 22 NC, 23 PETn2 (in), 24 NC, 25 PETp2 (in), 26 NC, 27 GND (power), 28 NC, 29 PERn1 (out), 30 NC, 31 PERp1 (out), 32 NC, 33 GND (power), 34 NC, 35 PETn1 (in), 36 NC, 37 PETp1 (in), 38 DEVSLP, 39 GND (power), 40 NC, 41 SATA-B+/PERn0 (out), 42 NC, 43 SATA-B-/PERp0 (out), 44 NC, 45 GND (power), 46 NC, 47 SATA-A-/PETn0 (in), 48 NC, 49 SATA-A+/PETp0 (in), 50 PERST#, 51 GND (power), 52 CLKREQ#, 53 REFCLKN, 54 PEWAKE#, 55 REFCLKP, 56 MFG1, 57 GND (power), 58 MFG2, 67 NC, 68 SUSCLK, 69 PEDET, 70 +3V3 (power), 71 GND (power), 72 +3V3 (power), 73 GND (power), 74 +3V3 (power), 75 GND
text: M.2; KEY M

## TE_MINI_UMNL_4MM14_6PIN_3x2_1-770178-1
designator J?, comment 1-770178-1
Connector Header Through Hole 6 position 0.163" (4.14mm); ComponentLink1Description: Digikey; ComponentLink1URL: https://www.digikey.ca/en/products/detail/te-connectivity-amp-connectors/1-770178-1/813568; ComponentLink2Description: Datasheet; ComponentLink2URL: https://www.te.com/usa-en/product-1-770178-1.datasheet.pdf
footprint TE_MINI_UMNL_4MM14_6PIN_3x2_1-770178-1 (Connector Header Through Hole 6 position 0.163" (4.14mm))
pins: 1, 2, 3 (power), 4 (power), 5 (power), 6 (power)
text: TE MINI UMNL

## TE_MINI_UMNL_4MM14_15PIN_5x3_1-770190-1
designator J?, comment 1-770190-1
Connector Header Through Hole 15 position 0.163" (4.14mm); ComponentLink1Description: Digikey; ComponentLink1URL: https://www.digikey.ca/en/products/detail/te-connectivity-amp-connectors/1-770190-1/1117847; ComponentLink2Description: Datasheet; ComponentLink2URL: https://www.te.com/usa-en/product-1-770190-1.datasheet.pdf
footprint TE_MINI_UMNL_4MM14_15PIN_5x3_1-770190-1 (Connector Header Through Hole 15 position 0.163" (4.14mm))
pins: 1, 2, 3 (power), 4 (power), 5 (power), 6 (power), 7 (power), 8 (power), 9 (power), 10 (power), 11 (power), 12 (power), 13 (power), 14 (power), 15 (power)
text: TE MINI UMNL

## TE_MTA_2MM54_2POS_RECEPTACLE
designator J?, comment 640456-2
Connector Header Through Hole 2 position 0.100" (2.54mm); ComponentLink1Description: Digikey; ComponentLink1URL: https://www.digikey.ca/en/products/detail/te-connectivity-amp-connectors/640456-2/109003; ComponentLink2Description: Datasheet; ComponentLink2URL: https://www.te.com/usa-en/product-640456-2.datasheet.pdf; ComponentLink3Description: LCSC; ComponentLink3URL: https://www.lcsc.com/product-detail/C86502.html?s_z=n_640456-2
footprint TE_MTA_2MM54_2POS_RECEPTACLE (Connector Header Through Hole 2 position 0.100" (2.54mm))
pins: 1, 2
text: MTA

## TE_MTA_2MM54_3POS_RECEPTACLE
designator J?, comment 640456-3
Connector Header Through Hole 3 position 0.100" (2.54mm)
pins: 1, 2, 3
text: MTA

## TE_MTA_2MM54_4POS_RECEPTACLE
designator J?, comment 640456-4
Connector Header Through Hole 4 position 0.100" (2.54mm)
pins: 1, 2, 3, 4
text: MTA

## TE_MTA_2MM54_5POS_RECEPTACLE
designator J?, comment 640456-5
Connector Header Through Hole 5 position 0.100" (2.54mm)
pins: 1, 2, 3, 4, 5
text: MTA

## TE_MTA_2MM54_6POS_RECEPTACLE
designator J?, comment 640456-6
Connector Header Through Hole 6 position 0.100" (2.54mm)
pins: 1, 2, 3, 4, 5, 6
text: MTA

## TE_MTE_2MM54_2POS_RECEPTACLE
designator J?, comment 5-103735-1
Connector Header Through Hole 2 position 0.100" (2.54mm). See 5-103908-1 for press fit version.; ComponentLink1Description: Digikey; ComponentLink1URL: https://www.digikey.ca/en/products/detail/te-connectivity-amp-connectors/5-103735-1/1122484; ComponentLink2Description: Drawing; ComponentLink2URL: https://www.te.com/commerce/DocumentDelivery/DDEController?Action=srchrtrv&DocNm=103735&DocType=Customer%20Drawing&DocLang=English&DocFormat=pdf&PartCntxt=5-103735-1; ComponentLink3Description: LCSC; ComponentLink3URL: https://www.lcsc.com/product-detail/C591738.html?s_z=n_5-103735-1
footprint TE_MTE_2MM54_2POS_RECEPTACLE_5-103735-1 (Connector Header Through Hole 2 position 0.100" (2.54mm) (5-103735-1))
pins: 1, 2
text: MTE

## TE_MTE_2MM54_3POS_RECEPTACLE
designator J?, comment 5-103735-2
Connector Header Through Hole 3 position 0.100" (2.54mm). See 5-103908-2 for press fit version.
footprint TE_MTE_2MM54_3POS_RECEPTACLE_5-103735-2 (Connector Header Through Hole 3 position 0.100" (2.54mm). See 5-103908-2 for press fit version.)
pins: 1, 2, 3
text: MTE

## TE_MTE_2MM54_4POS_RECEPTACLE
designator J?, comment 5-103735-3
Connector Header Through Hole 4 position 0.100" (2.54mm). See 5-103908-3 for press fit version.; ComponentLink1Description: Digikey; ComponentLink1URL: https://www.digikey.ca/en/products/detail/te-connectivity-amp-connectors/5-103735-3/1122489; ComponentLink2Description: Drawing; ComponentLink2URL: https://www.te.com/commerce/DocumentDelivery/DDEController?Action=srchrtrv&DocNm=103735&DocType=Customer%20Drawing&DocLang=English&DocFormat=pdf&PartCntxt=5-103735-3; ComponentLink3Description: LCSC; ComponentLink3URL: https://www.lcsc.com/product-detail/C5166331.html?s_z=n_5-103735-3
footprint TE_MTE_2MM54_4POS_RECEPTACLE_5-103735-3 (Connector Header Through Hole 4 position 0.100" (2.54mm) (5-103735-3))
pins: 1, 2, 3, 4
text: MTE

## TE_MTE_2MM54_5POS_RECEPTACLE
designator J?, comment 5-103735-4
Connector Header Through Hole 5 position 0.100" (2.54mm). See 5-103908-4 for press fit version.
pins: 1, 2, 3, 4, 5
text: MTE

## TE_MTE_2MM54_6POS_RECEPTACLE
designator J?, comment 5-103735-5
Connector Header Through Hole 6 position 0.100" (2.54mm). See 5-103908-5 for press fit version.; ComponentLink1Description: Digikey; ComponentLink1URL: https://www.digikey.ca/en/products/detail/te-connectivity-amp-connectors/5-103735-5/1122494; ComponentLink2Description: Drawing; ComponentLink2URL: https://www.te.com/commerce/DocumentDelivery/DDEController?Action=srchrtrv&DocNm=103735&DocType=Customer%20Drawing&DocLang=English&DocFormat=pdf&PartCntxt=5-103735-5; ComponentLink3Description: LCSC; ComponentLink3URL: https://www.lcsc.com/product-detail/C5165566.html?s_z=n_5-103735-5
footprint TE_MTE_2MM54_6POS_RECEPTACLE_5-103735-5 (Connector Header Through Hole 6 position 0.100" (2.54mm) (5-103735-5))
footprint TE_MTE_RA_2MM54_6POS_RECEPTACLE_5-103635-5 (Connector Header Through Hole 6 position 0.100" (2.54mm) (5-103635-5))
footprint TE_MTE_RA_2MM54_6POS_RECEPTACLE_5-103673-5 (Connector Header Through Hole, Right Angle 6 position 0.100" (2.54mm). (5-103673-5))
pins: 1, 2, 3, 4, 5, 6
text: MTE

## TE_MTE_2MM54_8POS_RECEPTACLE
designator J?, comment 5-103735-7
Connector Header Through Hole 8 position 0.100" (2.54mm). See 5-103908-7 for press fit version.; ComponentLink1Description: Digikey; ComponentLink1URL: https://www.digikey.com/en/products/detail/te-connectivity-amp-connectors/5-103735-7/1122536?s=N4IgTCBcDaIKwFoCMAGAzAdjYjIC6AvkA; ComponentLink2Description: Datasheet; ComponentLink2URL: https://www.te.com/commerce/DocumentDelivery/DDEController?Action=srchrtrv&DocNm=103735&DocType=Customer%20Drawing&DocLang=English&PartCntxt=5-103735-7&DocFormat=pdf
footprint TE_MTE_2MM54_8POS_RECEPTACLE_5-103735-7 (Connector Header Through Hole 8 position 0.100" (2.54mm) (5-103735-7))
footprint TE_MTE_RA_2MM54_8POS_RECEPTACLE_5-103635-7 (Connector Header Through Hole 8 position 0.100" (2.54mm) (5-103635-7))
footprint TE_MTE_RA_2MM54_8POS_RECEPTACLE_5-103673-7 (Connector Header Through Hole, Right Angle 8 position 0.100" (2.54mm) (5-103673-7))
pins: 1, 2, 3, 4, 5, 6, 7, 8
text: MTE

## TE_MTE_RA_2MM54_2POS_RECEPTACLE
designator J?, comment 5-103635-1
Connector Header Through Hole, Right Angle 2 position 0.100" (2.54mm). See 5-103673-1 for plastic supports.; ComponentLink1Description: Digikey; ComponentLink1URL: https://www.digikey.ca/en/products/detail/te-connectivity-amp-connectors/103635-1/298677
pins: 1, 2
text: MTE R/A

## TE_MTE_RA_2MM54_3POS_RECEPTACLE
designator J?, comment 5-103635-2
Connector Header Through Hole, Right Angle 3 position 0.100" (2.54mm). See 5-103673-2 for plastic supports.; ComponentLink1Description: Digikey; ComponentLink1URL: https://www.digikey.ca/en/products/detail/te-connectivity-amp-connectors/5-103635-2/1089963?s=N4IgTCBcDaIKwFoCMAGAzANjYiBdAvkA
pins: 1, 2, 3
text: MTE R/A

## TE_MTE_RA_2MM54_4POS_RECEPTACLE
designator J?, comment 5-103635-3
Connector Header Through Hole, Right Angle 4 position 0.100" (2.54mm). See 5-103673-3 for plastic supports.; ComponentLink1Description: Digikey; ComponentLink1URL: https://www.digikey.ca/en/products/detail/te-connectivity-amp-connectors/5-103635-3/1122425?s=N4IgTCBcDaIKwFoCMAGAzANjYtIC6AvkA
pins: 1, 2, 3, 4
text: MTE R/A

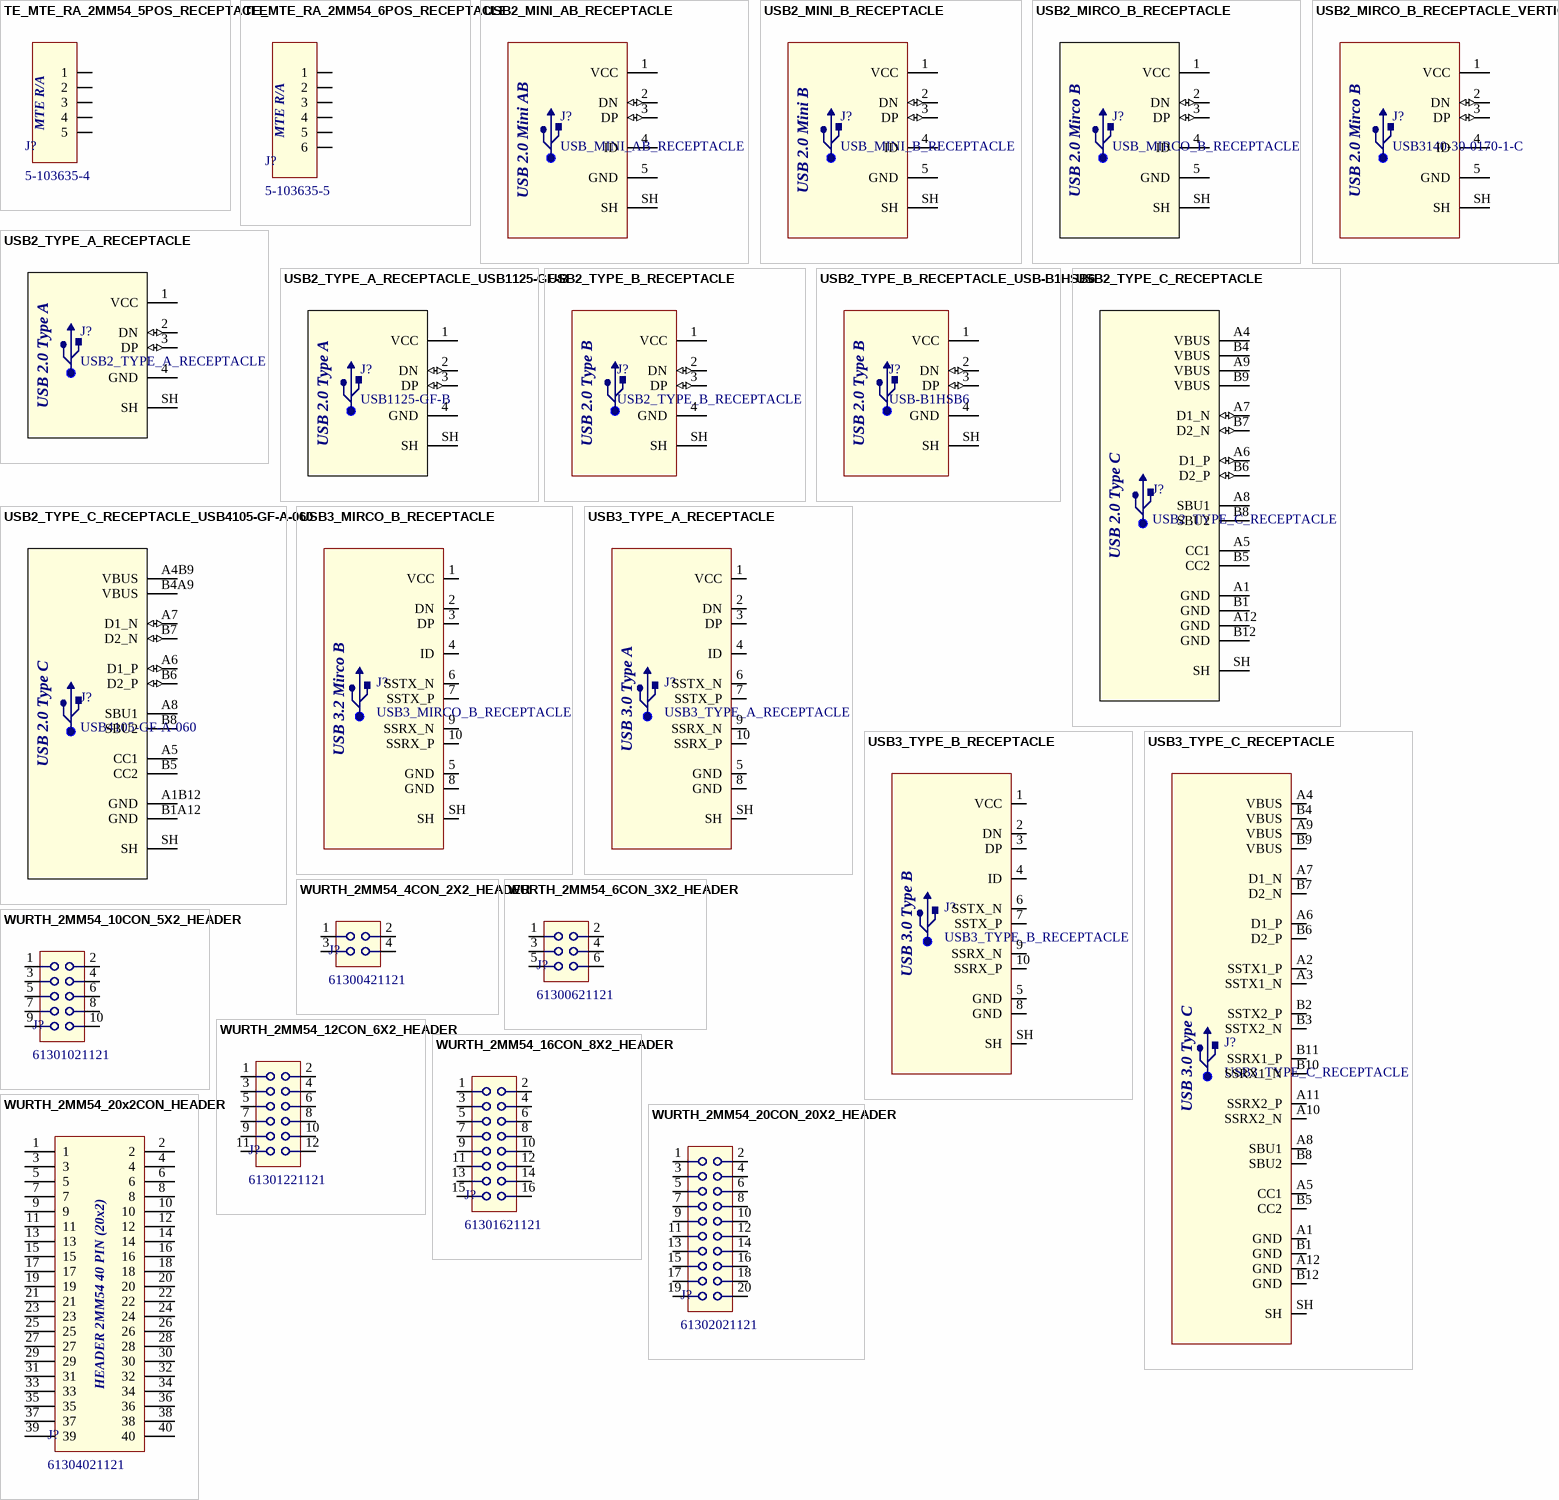
[diagram p6: symbols TE_MTE_RA_2MM54_5POS_RECEPTACLE to WURTH_2MM54_20x2CON_HEADER]

## TE_MTE_RA_2MM54_5POS_RECEPTACLE
designator J?, comment 5-103635-4
Connector Header Through Hole, Right Angle 5 position 0.100" (2.54mm). See 5-103673-4 for plastic supports.; ComponentLink1Description: Digikey; ComponentLink1URL: https://www.digikey.ca/en/products/detail/te-connectivity-amp-connectors/5-103635-4/1122428?s=N4IgTCBcDaIKwFoCMAGAzANjYgLCAugL5A
pins: 1, 2, 3, 4, 5
text: MTE R/A

## TE_MTE_RA_2MM54_6POS_RECEPTACLE
designator J?, comment 5-103635-5
Connector Header Through Hole, Right Angle 6 position 0.100" (2.54mm). See 5-103673-5 for plastic supports.; ComponentLink1Description: Digikey; ComponentLink1URL: https://www.digikey.ca/en/products/detail/te-connectivity-amp-connectors/5-103635-5/1122431?s=N4IgTCBcDaIKwFoCMAGAzANjYuIC6AvkA
pins: 1, 2, 3, 4, 5, 6
text: MTE R/A

## USB2_MINI_AB_RECEPTACLE
designator J?, comment USB_MINI_AB_RECEPTACLE
USB 2.0 Connector Type Mini AB, Right-Angle
pins: 1 VCC, 2 DN (io), 3 DP (io), 4 ID, 5 GND, SH
text: USB 2.0 Mini AB

## USB2_MINI_B_RECEPTACLE
designator J?, comment USB_MINI_B_RECEPTACLE
USB 2.0 Connector Type Mini B, Right-Angle
pins: 1 VCC, 2 DN (io), 3 DP (io), 4 ID, 5 GND, SH
text: USB 2.0 Mini B

## USB2_MIRCO_B_RECEPTACLE
designator J?, comment USB_MIRCO_B_RECEPTACLE
USB 2.0 Connector Type Micro B, Right-Angle
pins: 1 VCC, 2 DN (io), 3 DP (io), 4 ID, 5 GND, SH
text: USB 2.0 Mirco B

## USB2_MIRCO_B_RECEPTACLE_VERTICAL
designator J?, comment USB3140-30-0170-1-C
USB - micro B USB 2.0 Receptacle Connector 5 Position Surface Mount, Through Hole; ComponentLink1Description: Digikey; ComponentLink1URL: https://www.digikey.ca/en/products/detail/gct/USB3140-30-0170-1-C/9859645; ComponentLink2Description: Datasheet; ComponentLink2URL: https://gct.co/files/specs/usb3140-spec.pdf; ComponentLink4Description: CAD Drawing; ComponentLink4URL: https://gct.co/files/drawings/usb3140.pdf; ComponentLink5Description: Specification; ComponentLink5URL: https://gct.co/files/specs/usb3140-spec.pdf
footprint USB3140-30-0170-1-C
pins: 1 VCC, 2 DN (io), 3 DP (io), 4 ID, 5 GND, SH
text: USB 2.0 Mirco B

## USB2_TYPE_A_RECEPTACLE
designator J?
USB 2.0 Connector Type A, Right-Angle
pins: 1 VCC, 2 DN (io), 3 DP (io), 4 GND, SH
text: USB 2.0 Type A

## USB2_TYPE_A_RECEPTACLE_USB1125-GF-B
designator J?, comment USB1125-GF-B
USB-A (USB TYPE-A) USB 2.0 Receptacle Connector 4 Position Through Hole, Right Angle; ComponentLink1Description: Digikey; ComponentLink1URL: https://www.digikey.ca/en/products/detail/gct/USB1125-GF-B/12819955; ComponentLink2Description: Datasheet; ComponentLink2URL: https://gct.co/files/specs/usb1125-spec.pdf; ComponentLink3Description: LCSC; ComponentLink3URL: https://www.lcsc.com/product-detail/C5984324.html?s_z=n_q_p_usb1125%2520gf%2520b&lcsc_vid=T1FbBlxRQVBWAVJfFllbUQcCQgJcU1FRQldZX1NXRAIxVlNeRlVXV1VWQllcXzsOAxUeFF5JWBYZEEoKFBINSQcJGk4%3D
footprint USB2_TYPE_A_RECEPTACLE_USB1125-GF-B (USB-A (USB TYPE-A) USB 2.0 Receptacle Connector 4 Position Through Hole, Right Angle)
pins: 1 VCC, 2 DN (io), 3 DP (io), 4 GND, SH
text: USB 2.0 Type A

## USB2_TYPE_B_RECEPTACLE
designator J?
USB 2.0 Connector Type B, Right-Angle
footprint USB2_TYPE_B
pins: 1 VCC, 2 DN (io), 3 DP (io), 4 GND, SH
text: USB 2.0 Type B

## USB2_TYPE_B_RECEPTACLE_USB-B1HSB6
designator J?, comment USB-B1HSB6
USB 2.0 Connector Type B, Right-Angle; ComponentLink1Description: Digikey; ComponentLink1URL: https://www.digikey.ca/en/products/detail/on-shore-technology-inc/USB-B1HSB6/2677744; ComponentLink2Description: Datasheet; ComponentLink2URL: http://www.on-shore.com/wp-content/uploads/USB-B1HSXX.pdf
footprint USB2_TYPE_B
pins: 1 VCC, 2 DN (io), 3 DP (io), 4 GND, SH
text: USB 2.0 Type B

## USB2_TYPE_C_RECEPTACLE
designator J?
USB 2.0 Connector Type C, Right-Angle
pins: A1 GND, A4 VBUS, A5 CC1, A6 D1_P (io), A7 D1_N (io), A8 SBU1, A9 VBUS, A12 GND, B1 GND, B4 VBUS, B5 CC2, B6 D2_P (io), B7 D2_N (io), B8 SBU2, B9 VBUS, B12 GND, SH
text: USB 2.0 Type C

## USB2_TYPE_C_RECEPTACLE_USB4105-GF-A-060
designator J?, comment USB4105-GF-A-060
USB-C (USB TYPE-C) USB 2.0 Receptacle Connector 24 (16+8 Dummy) Position Surface Mount, Right Angle; Through Hole; ComponentLink1Description: Digikey; ComponentLink1URL: https://www.digikey.ca/en/products/detail/gct/USB4105-GF-A-060/14559036; ComponentLink2Description: Datasheet; ComponentLink2URL: https://gct.co/files/specs/usb4105-spec.pdf
footprint USB2_TYPE_C_RECEPTACLE_USB4105-GF-A-060 (USB-C (USB TYPE-C) USB 2.0 Receptacle Connector 24 (16+8 Dummy) Position Surface Mount, Right Angle; Through Hole)
pins: A1B12 GND, A4B9 VBUS, A5 CC1, A6 D1_P (io), A7 D1_N (io), A8 SBU1, B1A12 GND, B4A9 VBUS, B5 CC2, B6 D2_P (io), B7 D2_N (io), B8 SBU2, SH
text: USB 2.0 Type C

## USB3_MIRCO_B_RECEPTACLE
designator J?
USB 3.2 Connector Type Micro B, Right-Angle
pins: 1 VCC, 2 DN (io), 3 DP (io), 4 ID, 5 GND, 6 SSTX_N (io), 7 SSTX_P (io), 8 GND, 9 SSRX_N (io), 10 SSRX_P (io), SH
text: USB 3.2 Mirco B

## USB3_TYPE_A_RECEPTACLE
designator J?
USB 3.0 Connector Type A, Right-Angle
pins: 1 VCC, 2 DN (io), 3 DP (io), 4 ID, 5 GND, 6 SSTX_N (io), 7 SSTX_P (io), 8 GND, 9 SSRX_N (io), 10 SSRX_P (io), SH
text: USB 3.0 Type A

## USB3_TYPE_B_RECEPTACLE
designator J?
USB 3.0 Connector Type B, Right-Angle
pins: 1 VCC, 2 DN (io), 3 DP (io), 4 ID, 5 GND, 6 SSTX_N (io), 7 SSTX_P (io), 8 GND, 9 SSRX_N (io), 10 SSRX_P (io), SH
text: USB 3.0 Type B

## USB3_TYPE_C_RECEPTACLE
designator J?
USB 3.0 Connector Type C, Right-Angle
pins: A1 GND, A2 SSTX1_P, A3 SSTX1_N, A4 VBUS, A5 CC1, A6 D1_P (io), A7 D1_N (io), A8 SBU1, A9 VBUS, A10 SSRX2_N, A11 SSRX2_P, A12 GND, B1 GND, B2 SSTX2_P, B3 SSTX2_N, B4 VBUS, B5 CC2, B6 D2_P (io), B7 D2_N (io), B8 SBU2, B9 VBUS, B10 SSRX1_N, B11 SSRX1_P, B12 GND, SH
text: USB 3.0 Type C

## WURTH_2MM54_4CON_2X2_HEADER
designator J?, comment 61300421121
Connector Header Through Hole 4 position 0.100" (2.54mm); ComponentLink1Description: Digikey; ComponentLink1URL: https://www.digikey.ca/en/products/detail/w%C3%BCrth-elektronik/61300421121/4846829?s=N4IgTCBcDaIGwEYDMAGFAWMCFZAXQF8g; ComponentLink2Description: Datasheet; ComponentLink2URL: https://www.we-online.com/components/products/datasheet/61300421121.pdf
footprint HEADER_2MM54_4POS(2x2)_61300421121 (Connector Header Through Hole 4 position 0.100" (2.54mm))
pins: 1, 2, 3, 4

## WURTH_2MM54_6CON_3X2_HEADER
designator J?, comment 61300621121
Connector Header Through Hole 6 position 0.100" (2.54mm); ComponentLink1Description: Digikey; ComponentLink1URL: https://www.digikey.ca/en/products/detail/w%C3%BCrth-elektronik/61300621121/4846835; ComponentLink2Description: Datasheet; ComponentLink2URL: https://www.we-online.com/components/products/datasheet/61300621121.pdf
footprint HEADER_2MM54_6POS(3x2)_61300621121 (Connector Header Through Hole 6 position 0.100" (2.54mm))
pins: 1, 2, 3, 4, 5 (power), 6 (power)

## WURTH_2MM54_10CON_5X2_HEADER
designator J?, comment 61301021121
Connector Header Through Hole 10 position 0.100" (2.54mm); ComponentLink1Description: Digikey; ComponentLink1URL: https://www.digikey.ca/en/products/detail/w%C3%BCrth-elektronik/61301021121/2508441?s=N4IgTCBcDaIGwEYDMAGBKwIZkBdAvkA; ComponentLink2Description: Datasheet; ComponentLink2URL: https://www.we-online.com/components/products/datasheet/61301021121.pdf
footprint HEADER_2MM54_10POS(5x2)_61301021121 (Connector Header Through Hole 10 position 0.100" (2.54mm))
pins: 1, 2, 3, 4, 5 (power), 6 (power), 7, 8, 9, 10

## WURTH_2MM54_12CON_6X2_HEADER
designator J?, comment 61301221121
Connector Header Through Hole 12 position 0.100" (2.54mm); ComponentLink1Description: Digikey; ComponentLink1URL: https://www.digikey.com/en/products/detail/w%C3%BCrth-elektronik/61301221121/4846846; ComponentLink2Description: Datasheet; ComponentLink2URL: https://www.we-online.com/components/products/datasheet/61301221121.pdf
footprint HEADER_2MM54_12POS(6x2)_61301221121 (Connector Header Through Hole 12 position 0.100" (2.54mm))
pins: 1, 2, 3, 4, 5 (power), 6 (power), 7, 8, 9, 10, 11, 12

## WURTH_2MM54_16CON_8X2_HEADER
designator J?, comment 61301621121
Connector Header Through Hole 16 position 0.100" (2.54mm); ComponentLink1Description: Digikey; ComponentLink1URL: https://www.digikey.ca/en/products/detail/w%C3%BCrth-elektronik/61301621121/4846856?s=N4IgTCBcDaIGwEYDMAGBcwIZkBdAvkA; ComponentLink2Description: Datasheet; ComponentLink2URL: https://www.we-online.com/components/products/datasheet/61301621121.pdf
footprint HEADER_2MM54_16POS(8x2)_61301621121 (Connector Header Through Hole 16 position 0.100" (2.54mm))
pins: 1, 2, 3, 4, 5 (power), 6 (power), 7, 8, 9, 10, 11, 12, 13, 14, 15, 16

## WURTH_2MM54_20CON_20X2_HEADER
designator J?, comment 61302021121
Connector Header Through Hole 20 position 0.100" (2.54mm); ComponentLink1Description: Digikey; ComponentLink1URL: https://www.digikey.com/en/products/detail/w%C3%BCrth-elektronik/61302021121/4846862; ComponentLink2Description: Datasheet; ComponentLink2URL: https://www.we-online.com/components/products/datasheet/61302021121.pdf
footprint HEADER_2MM54_20POS(10x2)_61302021121 (Connector Header Through Hole 20 position 0.100" (2.54mm))
pins: 1, 2, 3, 4, 5 (power), 6 (power), 7, 8, 9, 10, 11, 12, 13, 14, 15, 16, 17, 18, 19, 20

## WURTH_2MM54_20x2CON_HEADER
designator J?, comment 61304021121
Connector Header Through Hole 40 position 0.100" (2.54mm); ComponentLink1Description: Digikey; ComponentLink1URL: https://www.digikey.ca/en/products/detail/w%C3%BCrth-elektronik/61304021121/4846886; ComponentLink2Description: New link; ComponentLink2URL: https://www.we-online.com/components/products/datasheet/61304021121.pdf
footprint HEADER_2MM54_40CON_20x2 (Connector Header Through Hole 40 position 0.100" (2.54mm))
pins: 1, 2, 3, 4, 5, 6, 7, 8, 9, 10, 11, 12, 13, 14, 15, 16, 17, 18, 19, 20, 21, 22, 23, 24, 25, 26, 27, 28, 29, 30, 31, 32, 33, 34, 35, 36, 37, 38, 39, 40
text: HEADER 2MM54 40 PIN (20x2)